# Altium footprint library MODULE_ROB-14450.PcbLib: 1 footprints
Each footprint in its own frame and in the unit in brackets; x right, y up, seen from the top. Pads: shape width x height; smd on the part's side, far side on the other; paste and mask are expansions set on the pad; w line width, h text height; cw(c..) or ccw(c..) is an arc to the next point about the centre after c.
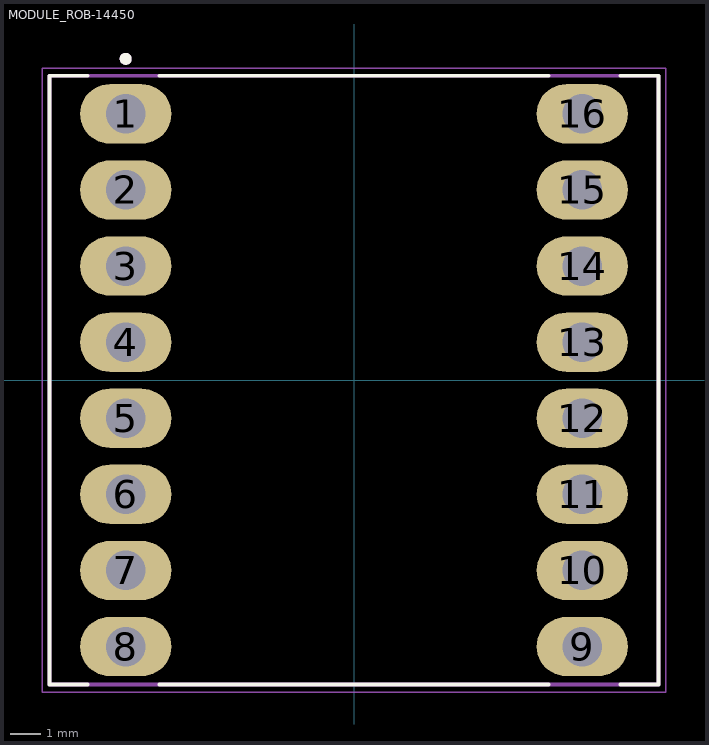
[diagram p0: the footprint, top view; thin cyan lines are the x and y axes]

## MODULE_ROB-14450 [mm]
pads (16):
  oval 3.048x1.98 hole 1.32: 1(-7.62,8.89) 2(-7.62,6.35) 3(-7.62,3.81) 4(-7.62,1.27) 5(-7.62,-1.27) 6(-7.62,-3.81) 7(-7.62,-6.35) 8(-7.62,-8.89) 9(7.62,-8.89) 10(7.62,-6.35) 11(7.62,-3.81) 12(7.62,-1.27) 13(7.62,1.27) 14(7.62,3.81) 15(7.62,6.35) 16(7.62,8.89)
Top Overlay:
  circle w0.2: c-7.62,10.728 r0.1
  lines w0.127: -8.89,-10.16 -10.16,-10.16 -10.16,10.16 -8.89,10.16 ; -6.5,-10.16 6.5,-10.16 ; -6.5,10.16 6.5,10.16 ; 8.89,-10.16 10.16,-10.16 10.16,10.16 8.89,10.16
Mechanical 13:
  circle w0.2: c-7.62,10.728 r0.1
  lines w0.127: -10.16,-10.16 10.16,-10.16 10.16,10.16 -10.16,10.16 -10.16,-10.16
Mechanical 15:
  lines w0.05: -10.41,-10.41 10.41,-10.41 10.41,10.41 -10.41,10.41 -10.41,-10.41
3D body "step_temp.STEP": height 5.5, standoff -6, extent -10.16,-10.414 10.16,9.906